# Altium footprint library watch.PcbLib: 18 footprints (part 2 of 2)
Each footprint in its own frame and in the unit in brackets; x right, y up, seen from the top. Pads: shape width x height; smd on the part's side, far side on the other; paste and mask are expansions set on the pad; w line width, h text height; cw(c..) or ccw(c..) is an arc to the next point about the centre after c.
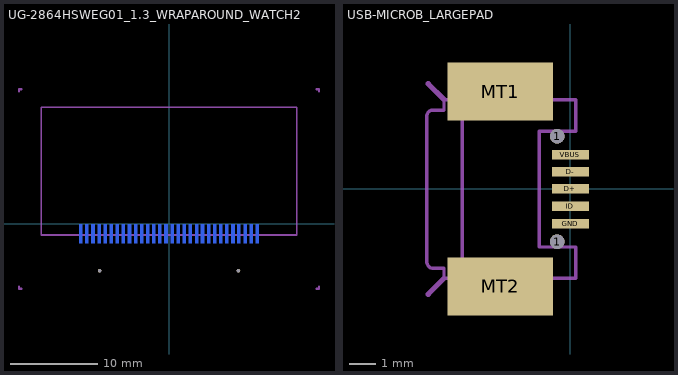
[diagram p1: the footprints below, top view; thin cyan lines are the x and y axes]

## UG-2864HSWEG01_1.3_WRAPAROUND_WATCH2 [mil] "UG-2864HSWEG01_1.3_WRAPAROUND_WATCH"
pads (32):
  rect 14x87 smd far side: 1(-399.61,-45.37) 2(-372.05,-45.37) 3(-344.49,-45.37) 4(-316.93,-45.37) 5(-289.37,-45.37) 6(-261.81,-45.37) 7(-234.25,-45.37) 8(-206.69,-45.37) 9(-179.13,-45.37) 10(-151.57,-45.37) 11(-124.02,-45.37) 12(-96.46,-45.37) 13(-68.9,-45.37) 14(-41.34,-45.37) 15(-13.78,-45.37) 16(14,-45.37) 17(42,-45.37) 18(69,-45.37) 19(97,-45.37) 20(125,-45.37) 21(152,-45.37) 22(180,-45.37) 23(207,-45.37) 24(235,-45.37) 25(262,-45.37) 26(290,-45.37) 27(317,-45.37) 28(345,-45.37) 29(373,-45.37) 30(400,-45.37)
  round 16 hole 16: 1(-314.96,-212.7) 1(315,-212.7)
Bottom Overlay:
  lines w10: -437.5,-275 -437.5,13 438,13 438,-275
Mechanical 16:
  lines w8: -578.74,-51.18 579,-51.18 579,528 -578.74,528 -578.74,-51.18
  lines w10: -680,-285 -680,-295 -670,-295 ; -680,600 -680,610 -670,610 ; 670,-295 680,-295 680,-285 ; 670,610 680,610 680,600
  text "PCB EDGE" at -102.36,-275.59 h49.6
Mechanical 30:
  text "1" at -391.73,60 h27.2
  text "10" at -143.7,56 h27.2
  text "20" at 130,56 h27.2
  text "30" at 412,56 h27.2

## USB-MICROB_LARGEPAD [mil] "USB-MICROB_LARGEPAD"
pads (9):
  round 22 hole 22: 1(-20,-79) 1(-20,78.74)
  rect 56x14 smd: D+(0,0) D-(0,25.59) GND(0,-52) ID(0,-26) VBUS(0,51.18)
  rect 158x87 smd: MT1(-105,145.67) MT2(-105,-146)
Mechanical 16:
  lines w5: -162.09,-134 -162.09,133.86 ; -162.09,-134 -189.65,-134 -189.65,-119 -207.36,-119 cw(c-205.8,-109.67) -215.24,-109 -215.24,110.24 cw(c-205.98,108.76) -205.39,118.11 -189.65,118.11 -189.65,133.86 -162.09,133.86 ; -162.09,-134 8,-134 8,-87 -47,-87 -47,86.61 8,86.61 8,133.86 -162.09,133.86
  lines w8: -213.27,-158 -189.65,-134 ; -213.27,157.48 -189.65,133.86